# Altium footprint library 7499110122.PcbLib: 1 footprints
Each footprint in its own frame and in the unit in brackets; x right, y up, seen from the top. Pads: shape width x height; smd on the part's side, far side on the other; paste and mask are expansions set on the pad; w line width, h text height; cw(c..) or ccw(c..) is an arc to the next point about the centre after c.
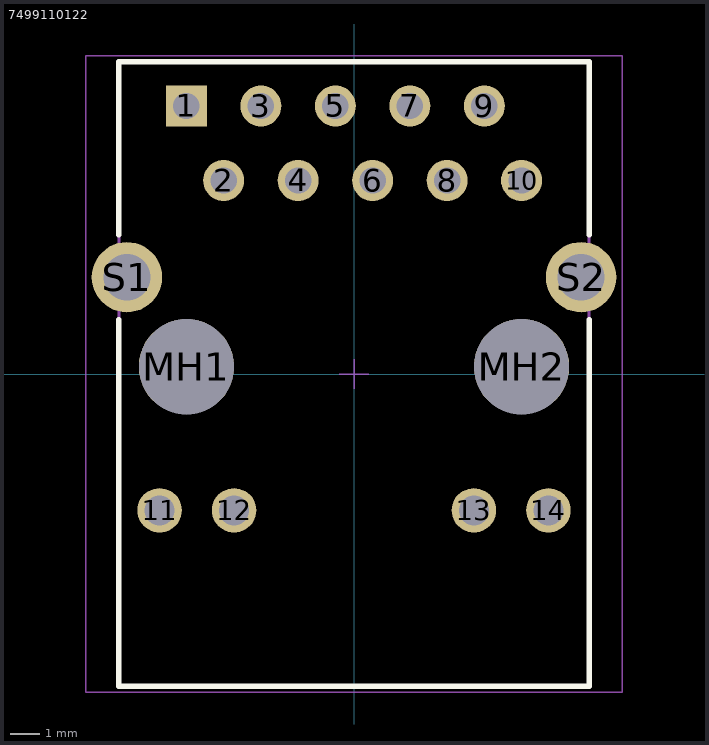
[diagram p0: the footprint, top view; thin cyan lines are the x and y axes]

## 7499110122 [mm] "LAN Transformer, body 21.3x16.04mm"
height 13.5
pads (18):
  rect 1.4x1.4 hole 0.9: 1(-5.715,9.14)
  round 1.4 hole 0.9: 2(-4.445,6.6) 3(-3.175,9.14) 4(-1.905,6.6) 5(-0.635,9.14) 6(0.635,6.6) 7(1.905,9.14) 8(3.175,6.6) 9(4.445,9.14) 10(5.715,6.6)
  round 1.52 hole 1.02: 11(-6.63,-4.65) 12(-4.09,-4.65) 13(4.09,-4.65) 14(6.63,-4.65)
  round 3.25 hole 3.25 unplated: MH1(-5.715,0.25) MH2(5.715,0.25)
  round 2.4 hole 1.6: S1(-7.745,3.3) S2(7.745,3.3)
Top Overlay:
  lines w0.2: -8.02,1.85 -8.02,-10.65 8.02,-10.65 8.02,1.85 ; -8.02,4.75 -8.02,10.65 8.02,10.65 8.02,4.75
Top Assembly:
  lines w0.1: -8.02,-10.65 8.02,-10.65 8.02,10.65 -8.02,10.65 -8.02,-10.65
Top Courtyard:
  lines w0.05: -0.5,0 0.5,0 ; 0,-0.5 0,0.5 ; -9.145,-10.85 9.145,-10.85 9.145,10.85 -9.145,10.85 -9.145,-10.85
3D body "7499110122.stp": height 13.7, standoff -3.65, extent -8.22,-10.65 8.22,10.65